# Altium schematic symbol library 1049P.SchLib: 2 symbols
Pins are listed as number, name and electrical type; pins without a type are passive.

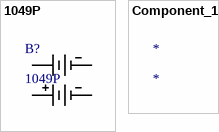
[diagram p0: symbols 1049P to Component_1]

## 1049P
designator B?
No Description Available; Mfr_Name: Keystone Electronics; Copyright: Copyright (C) 2022 Ultra Librarian. All rights reserved.; Manufacturer_Part_Number: 1049P; Digi-Key_Part_Number_1: 36-1049P-ND; RefDes: RefDes; Type: DEV
footprint 1049P_KEY
pins: 1, 2, 3, 4

## Component_1
designator *